# EAGLE library part HEADER_PINS (library 00_drich)
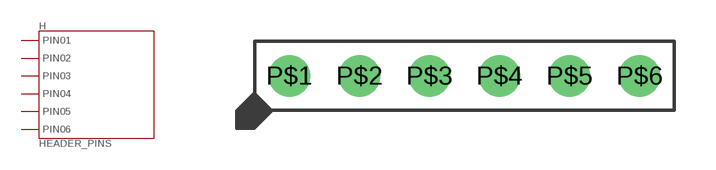
[diagram p4: symbol with the pads of PTH_2.54MM_01X06; footprint PTH_2.54MM_01X06]

Designator prefix H

## HEADER_PINS (MPN: MF-CON-2.54mm-01x06; POPULATE: 1)  [PTH_2.54MM_01X06]
P$1  PIN1
P$2  PIN2
P$3  PIN3
P$4  PIN4
P$5  PIN5
P$6  PIN6

## Footprint PTH_2.54MM_01X06 (pad centres in mm)
drill 1: P$1 -6.35,0; P$2 -3.81,0; P$3 -1.27,0; P$4 1.27,0; P$5 3.81,0; P$6 6.35,0